# EAGLE library part ICL7673 (library zz-upenn)
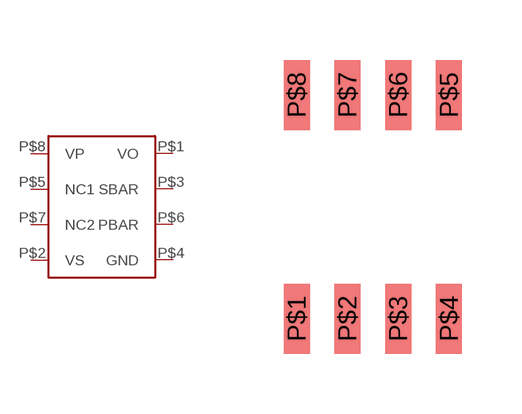
[diagram p33: symbol with the pads of SOIC-8; footprint SOIC-8]

Designator prefix -

## ICL7673  [SOIC-8]
P$1  VO
P$2  VS
P$3  SBAR
P$4  GND
P$5  NC1
P$6  PBAR
P$7  NC2
P$8  VP

## Footprint SOIC-8 (pad centres in mm)
smd 0.65 x 1.75: P$1 -1.905,-2.8; P$2 -0.635,-2.8; P$3 0.635,-2.8; P$4 1.905,-2.8; P$5 1.905,2.8; P$6 0.635,2.8; P$7 -0.635,2.8; P$8 -1.905,2.8